# Altium footprint library SnapEDApcb.PcbLib: 1 footprints
Each footprint in its own frame and in the unit in brackets; x right, y up, seen from the top. Pads: shape width x height; smd on the part's side, far side on the other; paste and mask are expansions set on the pad; w line width, h text height; cw(c..) or ccw(c..) is an arc to the next point about the centre after c.
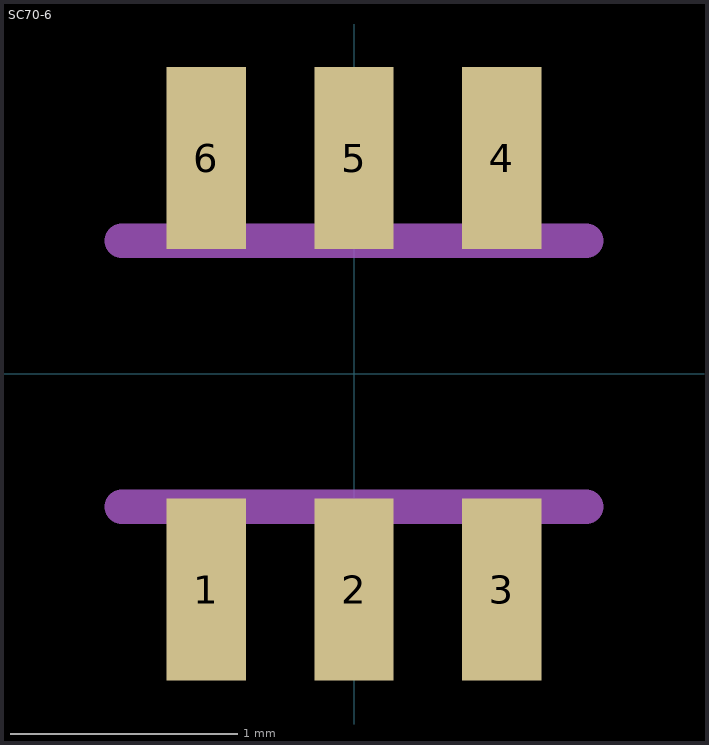
[diagram p0: the footprint, top view; thin cyan lines are the x and y axes]

## SC70-6 [mm]
pads (6):
  rect 0.35x0.8 smd paste-1 mask+0: 1(-0.65,-0.95) 2(0,-0.95) 3(0.65,-0.95) 4(0.65,0.95) 5(0,0.95) 6(-0.65,0.95)
Top Paste:
  region: -0.5,-1.327 -0.801,-1.327 -0.801,-0.575 -0.5,-0.575
  region: 0.15,-1.327 -0.15,-1.327 -0.15,-0.575 0.15,-0.575
  region: 0.8,-1.328 0.501,-1.328 0.501,-0.575 0.8,-0.575
  region: 0.8,0.577 0.501,0.577 0.501,1.325 0.8,1.325
  region: 0.15,0.576 -0.15,0.576 -0.15,1.325 0.15,1.325
  region: -0.5,0.577 -0.803,0.577 -0.803,1.325 -0.5,1.325
Top Solder:
  region: -0.425,-1.402 -0.876,-1.402 -0.876,-0.5 -0.425,-0.5
  region: 0.225,-1.401 -0.225,-1.401 -0.225,-0.5 0.225,-0.5
  region: 0.875,-1.401 0.425,-1.401 0.425,-0.5 0.875,-0.5
  region: 0.875,0.501 0.426,0.501 0.426,1.4 0.875,1.4
  region: 0.225,0.5 -0.225,0.5 -0.225,1.4 0.225,1.4
  region: -0.425,0.501 -0.876,0.501 -0.876,1.4 -0.425,1.4
Mechanical 13:
  region: 0.15,-1.202 -0.15,-1.202 -0.15,-0.625 0.15,-0.625
  region: -0.5,-1.201 -0.8,-1.201 -0.8,-0.625 -0.5,-0.625
  region: 0.8,-1.202 0.501,-1.202 0.501,-0.625 0.8,-0.625
  region: 0.8,0.626 0.501,0.626 0.501,1.2 0.8,1.2
  region: 0.15,0.626 -0.15,0.626 -0.15,1.2 0.15,1.2
  region: -0.5,0.626 -0.801,0.626 -0.801,1.2 -0.5,1.2
  lines w0.152: -1.022,-0.585 1.022,-0.585 ; -1.022,0.585 1.022,0.585